# EAGLE library part 64900829522 (library Wurth_Elektronik_Electromechanic_Wire_to_Board_Connectors_rev15c)
WR-MPC4-4.20mm Male Dual Row Angled Header,8 pins=>Code : WR-MPC4_Stiftbuchse_2reihig_abgewinkelt_64900829522 <http://katalog.we-online.de/media/thumbs2/eican/thb_WR-MPC4_Stiftbuchse_2reihig_abgewinkelt_64901029522.jpg> Details see: http://katalog.we-online.de/en/em/649_0xx_295_22 Created 2014-06-06, Karrer Zheng 2014 (C) Würth Elektronik
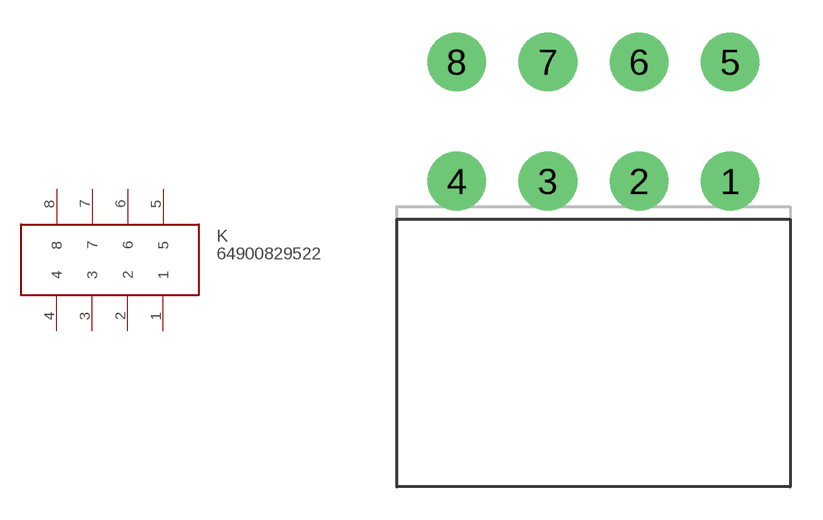
[diagram p284: symbol with the pads of 64900829522; footprint 64900829522]

Designator prefix K

## 64900829522  [64900829522]
1  1
2  2
3  3
4  4
5  5
6  6
7  7
8  8

## Footprint 64900829522 (pad centres in mm)
WR-MPC4-4.20mm Male Dual Row Angled Header,8 pins
drill 1.8: 1 6.285,-2.75; 2 2.085,-2.75; 3 -2.115,-2.75; 4 -6.315,-2.75; 5 6.285,2.75; 6 2.085,2.75; 7 -2.115,2.75; 8 -6.315,2.75